# Altium integrated library MAX232DR.IntLib: 1 symbol
Pins are listed as number, name and electrical type; pins without a type are passive.

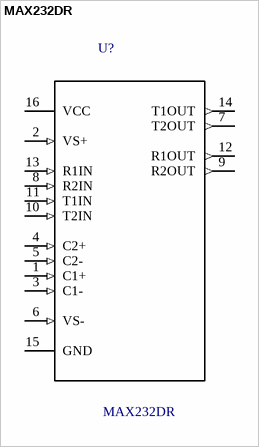
[diagram p0: symbol MAX232DR]

## MAX232DR
designator U?
Single Supply Voltage, RS-232 Transceiver; MF: Texas Instruments; MP: MAX232DR; SnapEDA_Link: https://www.snapeda.com/parts/MAX232DR/Texas%20Instruments/view-part/?ref=snap; Availability: Unavailable; Package: SOIC-16 Chipswinner; Price: None; Value: *
footprint SOIC127P600X175-16N
pins: 1 C1+ (in), 2 VS+ (in), 3 C1- (in), 4 C2+ (in), 5 C2- (in), 6 VS- (in), 7 T2OUT (out), 8 R2IN (in), 9 R2OUT (out), 10 T2IN (in), 11 T1IN (in), 12 R1OUT (out), 13 R1IN (in), 14 T1OUT (out), 15 GND, 16 VCC (power)